# EAGLE library part USB_HOST_MICRO_B_RECP_HORIZONTAL (library Connector_USB)
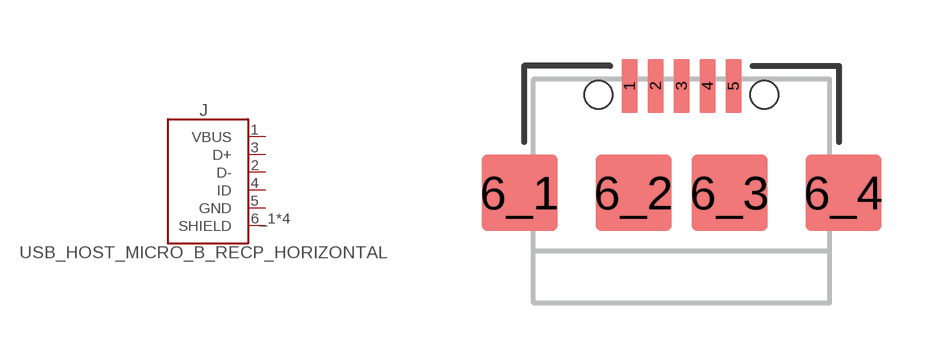
[diagram p1: symbol with the pads of MICRO_B_RECP_HORIZONTAL; footprint MICRO_B_RECP_HORIZONTAL]

Designator prefix J

## USB_HOST_MICRO_B_RECP_HORIZONTAL  [MICRO_B_RECP_HORIZONTAL]
1  VBUS  pwr
2  D-
3  D+
4  ID
5  GND  pwr
6_1  SHIELD  pwr
6_2  SHIELD  pwr
6_3  SHIELD  pwr
6_4  SHIELD  pwr

## Footprint MICRO_B_RECP_HORIZONTAL (pad centres in mm)
smd 0.4 x 1.35: 1 -1.3,2.675; 2 -0.65,2.675; 3 0,2.675; 4 0.65,2.675; 5 1.3,2.675
smd 1.9 x 1.9: 6_1 -4.05,0; 6_2 -1.2,0; 6_3 1.2,0; 6_4 4.05,0
hole 0.7 at -2.075,2.45
hole 0.7 at 2.075,2.45